# Altium schematic symbol library BLM18AG601SZ1D.SchLib: 1 symbol
Pins are listed as number, name and electrical type; pins without a type are passive.

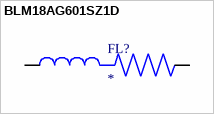
[diagram p0: symbol BLM18AG601SZ1D]

## BLM18AG601SZ1D
designator FL?
600 Ohms @ 100MHz 1 Signal Line Ferrite Bead 0603 (1608 Metric) 500mA 380mOhm; MF: Murata; MP: BLM18AG601SZ1D; SnapEDA_Link: https://www.snapeda.com/parts/BLM18AG601SZ1D/Murata/view-part/2724600/?ref=snap; Purchase-URL: https://pricing.snapeda.com/search/part/BLM18AG601SZ1D/?ref=eda; Check_prices: https://www.snapeda.com/parts/BLM18AG601SZ1D/Murata/view-part/2724600/?ref=eda; Value: *; Availability: Good; Price: None; Package: 1608 Murata
footprint BEADC1608X95N
pins: 1, 2